# Altium footprint library maxim.PCBLIB: 63 footprints (part 2 of 4)
Each footprint in its own frame and in the unit in brackets; x right, y up, seen from the top. Pads: shape width x height; smd on the part's side, far side on the other; paste and mask are expansions set on the pad; w line width, h text height; cw(c..) or ccw(c..) is an arc to the next point about the centre after c.
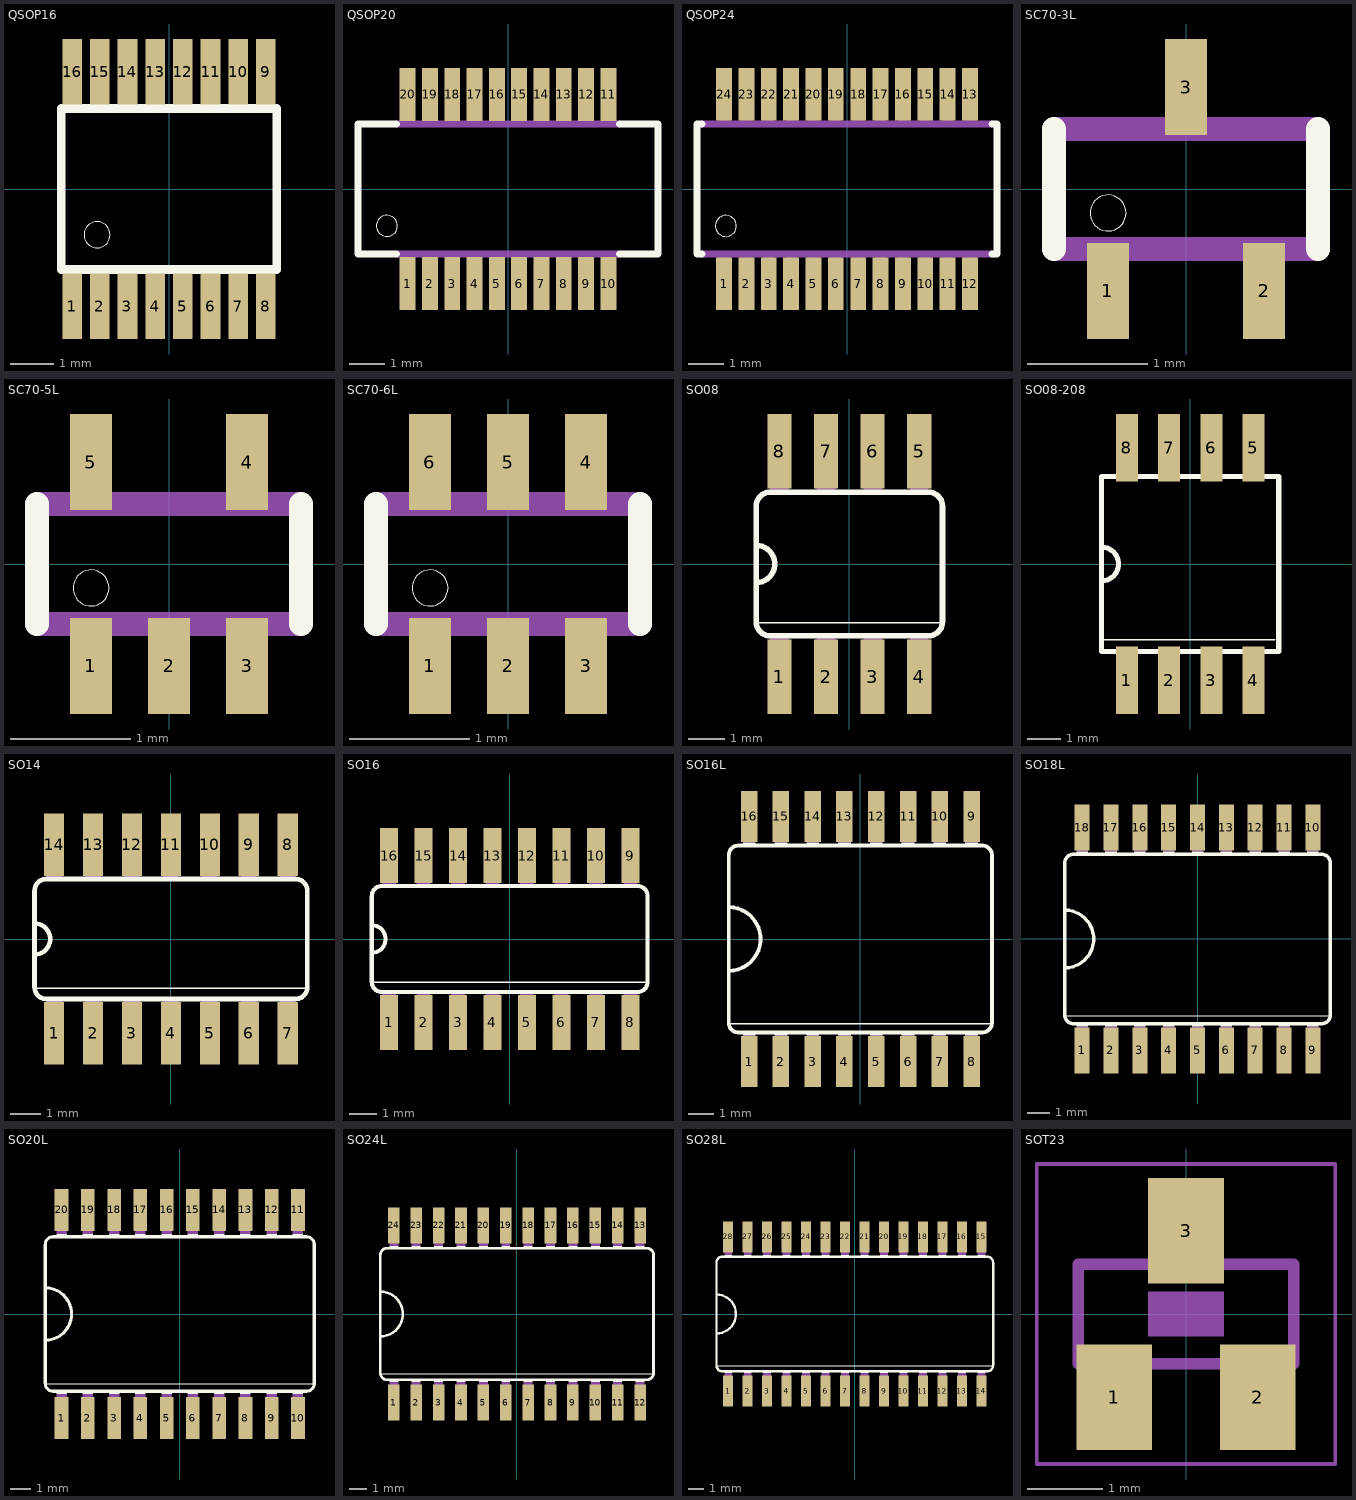
[diagram p1: the footprints below, top view; thin cyan lines are the x and y axes]

## QSOP16 [mil]
pads (16):
  rect 17.72x59.06 smd: 1(-87.5,-105.91) 2(-62.5,-105.91) 3(-37.5,-105.91) 4(-12.5,-105.91) 5(12.5,-105.91) 6(37.5,-105.91) 7(62.5,-105.91) 8(87.5,-105.91) 9(87.5,105.91) 10(62.5,105.91) 11(37.5,105.91) 12(12.5,105.91) 13(-12.5,105.91) 14(-37.5,105.91) 15(-62.5,105.91) 16(-87.5,105.91)
Top Overlay:
  circle w0: c-64.96,-41.34 r11.81
  lines w8: -97.24,-72.83 -97.24,72.83 97.24,72.83 97.24,-72.83 -97.24,-72.83
Mechanical 16:
  rectangle: -93.41,-122.05 -81.59,-70.87
  rectangle: -68.41,-122.05 -56.59,-70.87
  rectangle: -43.41,-122.05 -31.59,-70.87
  rectangle: -18.41,-122.05 -6.59,-70.87
  rectangle: 6.59,-122.05 18.41,-70.87
  rectangle: 31.59,-122.05 43.41,-70.87
  rectangle: 56.59,-122.05 68.41,-70.87
  rectangle: 81.59,-122.05 93.41,-70.87
  rectangle: 81.59,70.87 93.41,122.05
  rectangle: 56.59,70.87 68.41,122.05
  rectangle: 31.59,70.87 43.41,122.05
  rectangle: 6.59,70.87 18.41,122.05
  rectangle: -18.41,70.87 -6.59,122.05
  rectangle: -43.41,70.87 -31.59,122.05
  rectangle: -68.41,70.87 -56.59,122.05
  rectangle: -93.41,70.87 -81.59,122.05

## QSOP20 [mil]
pads (20):
  rect 17.72x59.06 smd: 1(-112.5,-105.91) 2(-87.5,-105.91) 3(-62.5,-105.91) 4(-37.5,-105.91) 5(-12.5,-105.91) 6(12.5,-105.91) 7(37.5,-105.91) 8(62.5,-105.91) 9(87.5,-105.91) 10(112.5,-105.91) 11(112.5,105.91) 12(87.5,105.91) 13(62.5,105.91) 14(37.5,105.91) 15(12.5,105.91) 16(-12.5,105.91) 17(-37.5,105.91) 18(-62.5,105.91) 19(-87.5,105.91) 20(-112.5,105.91)
Top Overlay:
  circle w0: c-135.83,-41.34 r11.81
  lines w8: -125,-72.83 -168.11,-72.83 -168.11,72.83 -125,72.83 ; 125,-72.83 168.11,-72.83 168.11,72.83 125,72.83
Mechanical 16:
  rectangle: -118.41,-122.05 -106.59,-70.87
  rectangle: -93.41,-122.05 -81.59,-70.87
  rectangle: -68.41,-122.05 -56.59,-70.87
  rectangle: -43.41,-122.05 -31.59,-70.87
  rectangle: -18.41,-122.05 -6.59,-70.87
  rectangle: 6.59,-122.05 18.41,-70.87
  rectangle: 31.59,-122.05 43.41,-70.87
  rectangle: 56.59,-122.05 68.41,-70.87
  rectangle: 81.59,-122.05 93.41,-70.87
  rectangle: 106.59,-122.05 118.41,-70.87
  rectangle: 106.59,70.87 118.41,122.05
  rectangle: 81.59,70.87 93.41,122.05
  rectangle: 56.59,70.87 68.41,122.05
  rectangle: 31.59,70.87 43.41,122.05
  rectangle: 6.59,70.87 18.41,122.05
  rectangle: -18.41,70.87 -6.59,122.05
  rectangle: -43.41,70.87 -31.59,122.05
  rectangle: -68.41,70.87 -56.59,122.05
  rectangle: -93.41,70.87 -81.59,122.05
  rectangle: -118.41,70.87 -106.59,122.05
  lines w8: -125,-72.83 125,-72.83 ; -125,72.83 125,72.83

## QSOP24 [mil]
pads (24):
  rect 17.72x59.06 smd: 1(-137.5,-105.91) 2(-112.5,-105.91) 3(-87.5,-105.91) 4(-62.5,-105.91) 5(-37.5,-105.91) 6(-12.5,-105.91) 7(12.5,-105.91) 8(37.5,-105.91) 9(62.5,-105.91) 10(87.5,-105.91) 11(112.5,-105.91) 12(137.5,-105.91) 13(137.5,105.91) 14(112.5,105.91) 15(87.5,105.91) 16(62.5,105.91) 17(37.5,105.91) 18(12.5,105.91) 19(-12.5,105.91) 20(-37.5,105.91) 21(-62.5,105.91) 22(-87.5,105.91) 23(-112.5,105.91) 24(-137.5,105.91)
Top Overlay:
  circle w0: c-135.43,-41.34 r11.81
  lines w8: -162.11,-72.83 -167.72,-72.83 -167.72,72.83 -162.11,72.83 ; 162.11,-72.83 167.72,-72.83 167.72,72.83 162.11,72.83
Top Solder:
  rectangle: -147.24,-136.81 -127.56,-74.8
  rectangle: -122.24,-136.81 -102.56,-74.8
  rectangle: -97.24,-136.81 -77.56,-74.8
  rectangle: -72.24,-136.81 -52.56,-74.8
  rectangle: -47.24,-136.81 -27.56,-74.8
  rectangle: -22.24,-136.81 -2.56,-74.8
  rectangle: 2.76,-136.81 22.44,-74.8
  rectangle: 27.76,-136.81 47.44,-74.8
  rectangle: 52.76,-136.81 72.44,-74.8
  rectangle: 77.76,-136.81 97.44,-74.8
  rectangle: 102.76,-136.81 122.44,-74.8
  rectangle: 127.76,-136.81 147.44,-74.8
  region: 147.24,136.81 127.56,136.81 127.56,74.8 147.24,74.8
  region: 122.24,136.81 102.56,136.81 102.56,74.8 122.24,74.8
  region: 97.24,136.81 77.56,136.81 77.56,74.8 97.24,74.8
  region: 72.24,136.81 52.56,136.81 52.56,74.8 72.24,74.8
  region: 47.24,136.81 27.56,136.81 27.56,74.8 47.24,74.8
  region: 22.24,136.81 2.56,136.81 2.56,74.8 22.24,74.8
  region: -2.76,136.81 -22.44,136.81 -22.44,74.8 -2.76,74.8
  region: -27.76,136.81 -47.44,136.81 -47.44,74.8 -27.76,74.8
  region: -52.76,136.81 -72.44,136.81 -72.44,74.8 -52.76,74.8
  region: -77.76,136.81 -97.44,136.81 -97.44,74.8 -77.76,74.8
  region: -102.76,136.81 -122.44,136.81 -122.44,74.8 -102.76,74.8
  region: -127.76,136.81 -147.44,136.81 -147.44,74.8 -127.76,74.8
Mechanical 16:
  rectangle: -143.41,-122.05 -131.59,-70.87
  rectangle: -118.41,-122.05 -106.59,-70.87
  rectangle: -93.41,-122.05 -81.59,-70.87
  rectangle: -68.41,-122.05 -56.59,-70.87
  rectangle: -43.41,-122.05 -31.59,-70.87
  rectangle: -18.41,-122.05 -6.59,-70.87
  rectangle: 6.59,-122.05 18.41,-70.87
  rectangle: 31.59,-122.05 43.41,-70.87
  rectangle: 56.59,-122.05 68.41,-70.87
  rectangle: 81.59,-122.05 93.41,-70.87
  region: 118.41,-70.87 106.59,-70.87 106.59,-122.05 118.41,-122.05
  region: 143.41,-70.87 131.59,-70.87 131.59,-122.05 143.41,-122.05
  rectangle: 131.59,70.87 143.41,122.05
  rectangle: 106.59,70.87 118.41,122.05
  rectangle: 81.59,70.87 93.41,122.05
  rectangle: 56.59,70.87 68.41,122.05
  rectangle: 31.59,70.87 43.41,122.05
  rectangle: 6.59,70.87 18.41,122.05
  rectangle: -18.41,70.87 -6.59,122.05
  rectangle: -43.41,70.87 -31.59,122.05
  rectangle: -68.41,70.87 -56.59,122.05
  rectangle: -93.41,70.87 -81.59,122.05
  rectangle: -118.41,70.87 -106.59,122.05
  rectangle: -143.41,70.87 -131.59,122.05
  lines w8: -162.11,-72.83 162.11,-72.83 ; -162.11,72.83 162.11,72.83

## SC70-3L [mm]
pads (3):
  rect 0.35x0.8 smd: 1(-0.65,-0.85) 2(0.65,-0.85) 3(0,0.85)
Top Overlay:
  circle w0: c-0.65,-0.2 r0.15
  lines w0.203: -1.1,-0.5 -1.1,0.5 ; 1.1,-0.5 1.1,0.5
Mechanical 16:
  rectangle: -0.8,-1.1 -0.5,-0.6
  rectangle: 0.5,-1.1 0.8,-0.6
  rectangle: -0.15,0.6 0.15,1.1
  lines w0.203: -1.1,-0.5 1.1,-0.5 ; -1.1,0.5 1.1,0.5

## SC70-5L [mm]
pads (5):
  rect 0.35x0.8 smd: 1(-0.65,-0.85) 2(0,-0.85) 3(0.65,-0.85) 4(0.65,0.85) 5(-0.65,0.85)
Top Overlay:
  circle w0: c-0.65,-0.2 r0.15
  lines w0.203: -1.1,-0.5 -1.1,0.5 ; 1.1,-0.5 1.1,0.5
Mechanical 16:
  rectangle: 0.5,0.6 0.8,1.1
  rectangle: -0.8,0.6 -0.5,1.1
  rectangle: -0.8,-1.1 -0.5,-0.6
  rectangle: -0.15,-1.1 0.15,-0.6
  rectangle: 0.5,-1.1 0.8,-0.6
  lines w0.203: -1.1,-0.5 1.1,-0.5 ; -1.1,0.5 1.1,0.5

## SC70-6L [mm]
pads (6):
  rect 0.35x0.8 smd: 1(-0.65,-0.85) 2(0,-0.85) 3(0.65,-0.85) 4(0.65,0.85) 5(0,0.85) 6(-0.65,0.85)
Top Overlay:
  circle w0: c-0.65,-0.2 r0.15
  lines w0.203: -1.1,-0.5 -1.1,0.5 ; 1.1,-0.5 1.1,0.5
Mechanical 16:
  rectangle: -0.8,-1.1 -0.5,-0.6
  rectangle: -0.15,-1.1 0.15,-0.6
  rectangle: 0.5,-1.1 0.8,-0.6
  rectangle: 0.5,0.6 0.8,1.1
  rectangle: -0.15,0.6 0.15,1.1
  rectangle: -0.8,0.6 -0.5,1.1
  lines w0.203: -1.1,-0.5 1.1,-0.5 ; -1.1,0.5 1.1,0.5

## SO08 [mil]
pads (8):
  rect 26x80 smd: 1(-75,-121) 2(-25,-121) 3(25,-121) 4(75,-121) 5(75,121) 6(25,121) 7(-25,121) 8(-75,121)
Top Overlay:
  lines w2: -100,-63 100,-63
  lines w6: -100,-20 ccw(c-100,0) -100,20 ; -100,-20 -100,-62 ccw(c-85,-62) -85,-77 85,-77 ccw(c85,-62) 100,-62 100,62 ccw(c85,62) 85,77 -85,77 ccw(c-85,62) -100,62 -100,20 ; -100,-20 -100,20
Mechanical 16:
  rectangle: -85,77 -65,122
  rectangle: -35,77 -15,122
  rectangle: 15,77 35,122
  rectangle: 65,-122 85,-77
  rectangle: 15,-121 35,-76
  rectangle: -35,-122 -15,-77
  rectangle: -85,-122 -65,-77
  rectangle: 65,77 85,122

## SO08-208 [mil]
pads (8):
  rect 26x80 smd: 1(-75,-137.73) 2(-25,-137.73) 3(25,-137.73) 4(75,-137.73) 5(75,137.73) 6(25,137.73) 7(-25,137.73) 8(-75,137.73)
Top Overlay:
  lines w2: -104.92,-89.57 100,-89.57
  lines w6: -104.92,-20 -104.92,20 ; -104.92,-20 -104.92,-103.57 104.92,-103.57 104.92,103.57 -104.92,103.57 -104.92,20 ; -104.92,-20 ccw(c-104.92,0) -104.92,20
Mechanical 16:
  rectangle: 65,103.57 85,158.46
  rectangle: -85,-158.46 -65,-103.57
  rectangle: -35,-158.46 -15,-103.57
  rectangle: 15,-158.46 35,-102.57
  rectangle: 65,-158.46 85,-103.57
  rectangle: 15,103.57 35,158.46
  rectangle: -35,103.57 -15,158.46
  rectangle: -85,103.57 -65,158.46

## SO14 [mil]
pads (14):
  rect 26x80 smd: 1(-150,-121) 2(-100,-121) 3(-50,-121) 4(0,-121) 5(50,-121) 6(100,-121) 7(150,-121) 8(150,121) 9(100,121) 10(50,121) 11(0,121) 12(-50,121) 13(-100,121) 14(-150,121)
Top Overlay:
  lines w2: -175,-63 175,-63
  lines w6: -175,-20 -175,20 ; -175,-20 -175,-62 ccw(c-160,-62) -160,-77 160,-77 ccw(c160,-62) 175,-62 175,62 ccw(c160,62) 160,77 -160,77 ccw(c-160,62) -175,62 -175,20 ; -175,-20 ccw(c-175,0) -175,20
Mechanical 16:
  rectangle: -10,77 10,122
  rectangle: -160,-122 -140,-77
  rectangle: -110,-122 -90,-77
  rectangle: -60,-121 -40,-76
  rectangle: -10,-122 10,-77
  rectangle: -60,77 -40,122
  rectangle: -110,77 -90,122
  rectangle: -160,77 -140,122
  rectangle: 40,77 60,122
  rectangle: 90,77 110,122
  rectangle: 140,77 160,122
  rectangle: 40,-122 60,-77
  rectangle: 90,-122 110,-77
  rectangle: 140,-122 160,-77

## SO16 [mil]
pads (16):
  rect 26x80 smd: 1(-175,-121) 2(-125,-121) 3(-75,-121) 4(-25,-121) 5(25,-121) 6(75,-121) 7(125,-121) 8(175,-121) 9(175,121) 10(125,121) 11(75,121) 12(25,121) 13(-25,121) 14(-75,121) 15(-125,121) 16(-175,121)
Top Overlay:
  lines w2: -200,-63 200,-63
  lines w6: -200,-20 -200,20 ; -200,-20 -200,-62 ccw(c-185,-62) -185,-77 185,-77 ccw(c185,-62) 200,-62 200,62 ccw(c185,62) 185,77 -185,77 ccw(c-185,62) -200,62 -200,20 ; -200,-20 ccw(c-200,0) -200,20
Mechanical 16:
  rectangle: -35,77 -15,122
  rectangle: -185,-122 -165,-77
  rectangle: -135,-122 -115,-77
  rectangle: -85,-121 -65,-76
  rectangle: -35,-122 -15,-77
  rectangle: -85,77 -65,122
  rectangle: -135,77 -115,122
  rectangle: -185,77 -165,122
  rectangle: 15,-122 35,-77
  rectangle: 65,-122 85,-77
  rectangle: 115,-122 135,-77
  rectangle: 165,-122 185,-77
  rectangle: 15,77 35,122
  rectangle: 65,77 85,122
  rectangle: 115,77 135,122
  rectangle: 165,77 185,122

## SO16L [mil]
pads (16):
  rect 26x80 smd: 1(-175,-193) 2(-125,-193) 3(-75,-193) 4(-25,-193) 5(25,-193) 6(75,-193) 7(125,-193) 8(175,-193) 9(175,193) 10(125,193) 11(75,193) 12(25,193) 13(-25,193) 14(-75,193) 15(-125,193) 16(-175,193)
Top Overlay:
  rectangle: -185,-152 -165,-147
  rectangle: -135,-152 -115,-147
  rectangle: -85,-152 -65,-147
  rectangle: -35,-152 -15,-147
  rectangle: 15,-152 35,-147
  rectangle: 65,-152 85,-147
  rectangle: 115,-152 135,-147
  rectangle: 165,-152 185,-147
  rectangle: -185,147 -165,152
  rectangle: -135,147 -115,152
  rectangle: -85,147 -65,152
  rectangle: -35,147 -15,152
  rectangle: 15,147 35,152
  rectangle: 65,147 85,152
  rectangle: 115,147 135,152
  rectangle: 165,147 185,152
  lines w2: -205,-133 206,-133
  lines w6: -207,-50 -207,50 ; -207,-50 -207,-132 ccw(c-192,-132) -192,-147 192,-147 ccw(c192,-132) 207,-132 207,132 ccw(c192,132) 192,147 -192,147 ccw(c-192,132) -207,132 -207,50 ; -207,-50 ccw(c-207,0) -207,50
Mechanical 16:
  rectangle: -185,-210 -165,-152
  rectangle: -135,-210 -115,-152
  rectangle: -85,-210 -65,-152
  rectangle: -35,-210 -15,-152
  rectangle: 15,-210 35,-152
  rectangle: 65,-210 85,-152
  rectangle: 115,-210 135,-152
  rectangle: 165,-210 185,-152
  rectangle: -185,152 -165,210
  rectangle: -135,152 -115,210
  rectangle: -85,152 -65,210
  rectangle: -35,152 -15,210
  rectangle: 15,152 35,210
  rectangle: 65,152 85,210
  rectangle: 115,152 135,210
  rectangle: 165,152 185,210

## SO18L [mil]
pads (18):
  rect 26x80 smd: 1(-200,-193) 2(-150,-193) 3(-100,-193) 4(-50,-193) 5(0,-193) 6(50,-193) 7(100,-193) 8(150,-193) 9(200,-193) 10(200,193) 11(150,193) 12(100,193) 13(50,193) 14(0,193) 15(-50,193) 16(-100,193) 17(-150,193) 18(-200,193)
Top Overlay:
  rectangle: -210,-152 -190,-147
  rectangle: -160,-152 -140,-147
  rectangle: -110,-152 -90,-147
  rectangle: -60,-152 -40,-147
  rectangle: -10,-152 10,-147
  rectangle: 40,-152 60,-147
  rectangle: 90,-152 110,-147
  rectangle: 140,-152 160,-147
  rectangle: -210,147 -190,152
  rectangle: -160,147 -140,152
  rectangle: -110,147 -90,152
  rectangle: -60,147 -40,152
  rectangle: -10,147 10,152
  rectangle: 40,147 60,152
  rectangle: 90,147 110,152
  rectangle: 140,147 160,152
  rectangle: 190,147 210,152
  rectangle: 190,-152 210,-147
  lines w2: -230,-133 230,-133
  lines w6: -230,-50 -230,50 ; -230,-50 -230,-132 ccw(c-215,-132) -215,-147 215,-147 ccw(c215,-132) 230,-132 230,132 ccw(c215,132) 215,147 -215,147 ccw(c-215,132) -230,132 -230,50 ; -230,-50 ccw(c-230,0) -230,50
Mechanical 16:
  rectangle: -210,-210 -190,-152
  rectangle: -160,-210 -140,-152
  rectangle: -110,-210 -90,-152
  rectangle: -60,-210 -40,-152
  rectangle: -10,-210 10,-152
  rectangle: 40,-210 60,-152
  rectangle: 90,-210 110,-152
  rectangle: 140,-210 160,-152
  rectangle: -210,152 -190,210
  rectangle: -160,152 -140,210
  rectangle: -110,152 -90,210
  rectangle: -60,152 -40,210
  rectangle: -10,152 10,210
  rectangle: 40,152 60,210
  rectangle: 90,152 110,210
  rectangle: 140,152 160,210
  rectangle: 190,152 210,210
  rectangle: 190,-210 210,-152

## SO20L [mil]
pads (20):
  rect 26x80 smd: 1(-225,-198) 2(-175,-198) 3(-125,-198) 4(-75,-198) 5(-25,-198) 6(25,-198) 7(75,-198) 8(125,-198) 9(175,-198) 10(225,-198) 11(225,198) 12(175,198) 13(125,198) 14(75,198) 15(25,198) 16(-25,198) 17(-75,198) 18(-125,198) 19(-175,198) 20(-225,198)
Top Overlay:
  rectangle: -235,-152 -215,-147
  rectangle: -185,-152 -165,-147
  rectangle: -135,-152 -115,-147
  rectangle: -85,-152 -65,-147
  rectangle: -35,-152 -15,-147
  rectangle: 15,-152 35,-147
  rectangle: 65,-152 85,-147
  rectangle: 115,-152 135,-147
  rectangle: -235,147 -215,152
  rectangle: -185,147 -165,152
  rectangle: -135,147 -115,152
  rectangle: -85,147 -65,152
  rectangle: -35,147 -15,152
  rectangle: 15,147 35,152
  rectangle: 65,147 85,152
  rectangle: 115,147 135,152
  rectangle: 165,147 185,152
  rectangle: 215,147 235,152
  rectangle: 165,-152 185,-147
  rectangle: 215,-152 235,-147
  lines w2: -255,-133 255,-133
  lines w6: -256,-50 -256,50 ; -256,-50 -256,-132 ccw(c-241,-132) -241,-147 241,-147 ccw(c241,-132) 256,-132 256,132 ccw(c241,132) 241,147 -241,147 ccw(c-241,132) -256,132 -256,50 ; -256,-50 ccw(c-256,0) -256,50
Mechanical 16:
  rectangle: -235,-210 -215,-152
  rectangle: -185,-210 -165,-152
  rectangle: -135,-210 -115,-152
  rectangle: -85,-210 -65,-152
  rectangle: -35,-210 -15,-152
  rectangle: 15,-210 35,-152
  rectangle: 65,-210 85,-152
  rectangle: 115,-210 135,-152
  rectangle: -235,152 -215,210
  rectangle: -185,152 -165,210
  rectangle: -135,152 -115,210
  rectangle: -85,152 -65,210
  rectangle: -35,152 -15,210
  rectangle: 15,152 35,210
  rectangle: 65,152 85,210
  rectangle: 115,152 135,210
  rectangle: 165,152 185,210
  rectangle: 215,152 235,210
  rectangle: 165,-210 185,-152
  rectangle: 215,-210 235,-152

## SO24L [mil]
pads (24):
  rect 26x80 smd: 1(-275,-198) 2(-225,-198) 3(-175,-198) 4(-125,-198) 5(-75,-198) 6(-25,-198) 7(25,-198) 8(75,-198) 9(125,-198) 10(175,-198) 11(225,-198) 12(275,-198) 13(275,198) 14(225,198) 15(175,198) 16(125,198) 17(75,198) 18(25,198) 19(-25,198) 20(-75,198) 21(-125,198) 22(-175,198) 23(-225,198) 24(-275,198)
Top Overlay:
  rectangle: -285,-152 -265,-147
  rectangle: -235,-152 -215,-147
  rectangle: -185,-152 -165,-147
  rectangle: -135,-152 -115,-147
  rectangle: -85,-152 -65,-147
  rectangle: -35,-152 -15,-147
  rectangle: 15,-152 35,-147
  rectangle: 65,-152 85,-147
  rectangle: -285,147 -265,152
  rectangle: -235,147 -215,152
  rectangle: -185,147 -165,152
  rectangle: -135,147 -115,152
  rectangle: -85,147 -65,152
  rectangle: -35,147 -15,152
  rectangle: 15,147 35,152
  rectangle: 65,147 85,152
  rectangle: 115,147 135,152
  rectangle: 165,147 185,152
  rectangle: 215,147 235,152
  rectangle: 265,147 285,152
  rectangle: 115,-152 135,-147
  rectangle: 165,-152 185,-147
  rectangle: 215,-152 235,-147
  rectangle: 265,-152 285,-147
  lines w2: -305,-133 305,-133
  lines w6: -305,-50 -305,50 ; -305,-50 -305,-132 ccw(c-290,-132) -290,-147 290,-147 ccw(c290,-132) 305,-132 305,132 ccw(c290,132) 290,147 -290,147 ccw(c-290,132) -305,132 -305,50 ; -305,-50 ccw(c-305,0) -305,50
Mechanical 16:
  rectangle: -285,-210 -265,-152
  rectangle: -235,-210 -215,-152
  rectangle: -185,-210 -165,-152
  rectangle: -135,-210 -115,-152
  rectangle: -85,-210 -65,-152
  rectangle: -35,-210 -15,-152
  rectangle: 15,-210 35,-152
  rectangle: 65,-210 85,-152
  rectangle: -285,152 -265,210
  rectangle: -235,152 -215,210
  rectangle: -185,152 -165,210
  rectangle: -135,152 -115,210
  rectangle: -85,152 -65,210
  rectangle: -35,152 -15,210
  rectangle: 15,152 35,210
  rectangle: 65,152 85,210
  rectangle: 115,152 135,210
  rectangle: 165,152 185,210
  rectangle: 215,152 235,210
  rectangle: 265,152 285,210
  rectangle: 115,-210 135,-152
  rectangle: 165,-210 185,-152
  rectangle: 215,-210 235,-152
  rectangle: 265,-210 285,-152

## SO28L [mil]
pads (28):
  rect 26x80 smd: 1(-325,-198) 2(-275,-198) 3(-225,-198) 4(-175,-198) 5(-125,-198) 6(-75,-198) 7(-25,-198) 8(25,-198) 9(75,-198) 10(125,-198) 11(175,-198) 12(225,-198) 13(275,-198) 14(325,-198) 15(325,198) 16(275,198) 17(225,198) 18(175,198) 19(125,198) 20(75,198) 21(25,198) 22(-25,198) 23(-75,198) 24(-125,198) 25(-175,198) 26(-225,198) 27(-275,198) 28(-325,198)
Top Overlay:
  rectangle: -335,-152 -315,-147
  rectangle: -285,-152 -265,-147
  rectangle: -235,-152 -215,-147
  rectangle: -185,-152 -165,-147
  rectangle: -135,-152 -115,-147
  rectangle: -85,-152 -65,-147
  rectangle: -35,-152 -15,-147
  rectangle: 15,-152 35,-147
  rectangle: -335,147 -315,152
  rectangle: -285,147 -265,152
  rectangle: -235,147 -215,152
  rectangle: -185,147 -165,152
  rectangle: -135,147 -115,152
  rectangle: -85,147 -65,152
  rectangle: -35,147 -15,152
  rectangle: 15,147 35,152
  rectangle: 65,147 85,152
  rectangle: 115,147 135,152
  rectangle: 165,147 185,152
  rectangle: 215,147 235,152
  rectangle: 265,147 285,152
  rectangle: 315,147 335,152
  rectangle: 65,-152 85,-147
  rectangle: 115,-152 135,-147
  rectangle: 165,-152 185,-147
  rectangle: 215,-152 235,-147
  rectangle: 265,-152 285,-147
  rectangle: 315,-152 335,-147
  lines w2: -355,-133 355,-133
  lines w6: -355,-50 -355,50 ; -355,-50 -355,-132 ccw(c-340,-132) -340,-147 340,-147 ccw(c340,-132) 355,-132 355,132 ccw(c340,132) 340,147 -340,147 ccw(c-340,132) -355,132 -355,50 ; -355,-50 ccw(c-355,0) -355,50
Mechanical 16:
  rectangle: -335,-210 -315,-152
  rectangle: -285,-210 -265,-152
  rectangle: -235,-210 -215,-152
  rectangle: -185,-210 -165,-152
  rectangle: -135,-210 -115,-152
  rectangle: -85,-210 -65,-152
  rectangle: -35,-210 -15,-152
  rectangle: 15,-210 35,-152
  rectangle: -335,152 -315,210
  rectangle: -285,152 -265,210
  rectangle: -235,152 -215,210
  rectangle: -185,152 -165,210
  rectangle: -135,152 -115,210
  rectangle: -85,152 -65,210
  rectangle: -35,152 -15,210
  rectangle: 15,152 35,210
  rectangle: 65,-210 85,-152
  rectangle: 115,-210 135,-152
  rectangle: 165,-210 185,-152
  rectangle: 215,-210 235,-152
  rectangle: 265,-210 285,-152
  rectangle: 315,-210 335,-152
  rectangle: 65,152 85,210
  rectangle: 115,152 135,210
  rectangle: 165,152 185,210
  rectangle: 215,152 235,210
  rectangle: 265,152 285,210
  rectangle: 315,152 335,210

## SOT23 [mm]
pads (3):
  rect 1x1.4 smd: 1(-0.95,-1.1) 2(0.95,-1.1) 3(0,1.1)
Mechanical 6:
  rectangle: -0.5,-0.3 0.5,0.3
Mechanical 16:
  rectangle: -0.229,0.711 0.229,1.295
  rectangle: 0.711,-1.295 1.168,-0.711
  rectangle: -1.168,-1.295 -0.711,-0.711
  lines w0.152: -1.422,-0.66 1.422,-0.66 1.422,0.66 -1.422,0.66 -1.422,-0.66
Mechanical 27:
  lines w0.051: -1.973,-1.983 1.973,-1.983 1.973,1.983 -1.973,1.983 -1.973,-1.983